# Altium schematic symbol library APP_1_Schlib.SchLib: 1 symbol
Pins are listed as number, name and electrical type; pins without a type are passive.

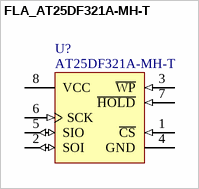
[diagram p0: symbol FLA_AT25DF321A-MH-T]

## FLA_AT25DF321A-MH-T
designator U?, comment AT25DF321A-MH-T
SPI Serial Flash Memory, 32 Megabit, 100 MHz, 2.7 to 3.6 V, -40 to 85 degC, 8-Pin UDFN (MA1-8), RoHS, Tape and Reel; Manufacturer: Adesto; Max. Freq: 100 MHz; Packing: Tape and Reel; PackageVersion: Rev. D; PartNumber: AT25DF321A-MH-T; RoHS: TRUE; PackageReference: MA1-8; ComponentLink2Description: Datasheet; Device Density: 32 Megabit; PackageDescription: 8-Pin Thermally Enhanced Plastic Ultra Thin Dual Flat No Lead Package, Body 5 x 6 mm, Pitch 1.27 mm; ComponentLink2URL: http://www.adestotech.com/sites/default/files/datasheets/doc3686.pdf; DatasheetVersion: Rev. 3686E; Mounting Technology: Surface Mount; ComponentLink1URL: http://www.adestotech.com/; ComponentLink1Description: Manufacturer URL; Interface: Serial; ComponentLink3Description: Package Specification; Operating Temperature: -40 to 85 degC; Operating Voltage: 2.7 to 3.6 V; ComponentLink3URL: http://www.adestotech.com/sites/default/files/datasheets/doc3668.pdf
footprint ADST-MA1-8_L (UDFN, 8-Leads, Body 5.1x6.1mm, Pitch 1.27mm, Thermal Pad 4x3.4mm, IPC High Density)
footprint ADST-MA1-8_N (UDFN, 8-Leads, Body 5.1x6.1mm, Pitch 1.27mm, Thermal Pad 4x3.4mm, IPC Medium Density)
footprint ADST-MA1-8_M (UDFN, 8-Leads, Body 5.1x6.1mm, Pitch 1.27mm, Thermal Pad 4.00x3.40mm, IPC Low Density)
pins: 1 ~{CS} (in), 2 SOI (io), 3 ~{WP} (in), 4 GND (power), 5 SIO (io), 6 SCK (in), 7 ~{HOLD} (in), 8 VCC (power)